# Altium schematic symbol library Schlib1.SchLib: 6 symbols
Pins are listed as number, name and electrical type; pins without a type are passive.

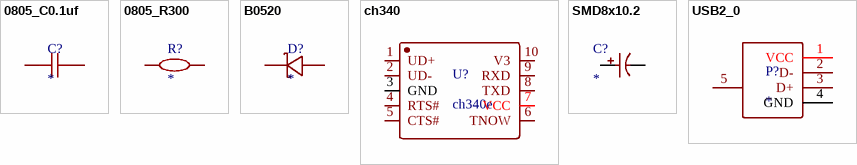
[diagram p0: symbols 0805_C0.1uf to USB2_0]

## 0805_C0.1uf
designator C?
footprint 0805_C
pins: 1, 2

## 0805_R300
designator R?
footprint 0805_R
pins: 1, 2

## B0520
designator D?
footprint B0520
pins: 1 C, 2 A

## ch340
designator U?, comment ch340e
footprint CH340E
pins: 1 UD+, 2 UD-, 3 GND, 4 RTS#, 5 CTS#, 6 TNOW, 7 VCC, 8 TXD, 9 RXD, 10 V3

## SMD8x10.2
designator C?
footprint SMD8x10.2
pins: 1, 2

## USB2_0
designator P?
footprint USB2_0
pins: 1 VCC, 2 D-, 3 D+, 4 GND, 5 SH1